# Altium footprint library PCB1.PcbLib: 34 footprints (part 1 of 3)
Each footprint in its own frame and in the unit in brackets; x right, y up, seen from the top. Pads: shape width x height; smd on the part's side, far side on the other; paste and mask are expansions set on the pad; w line width, h text height; cw(c..) or ccw(c..) is an arc to the next point about the centre after c.
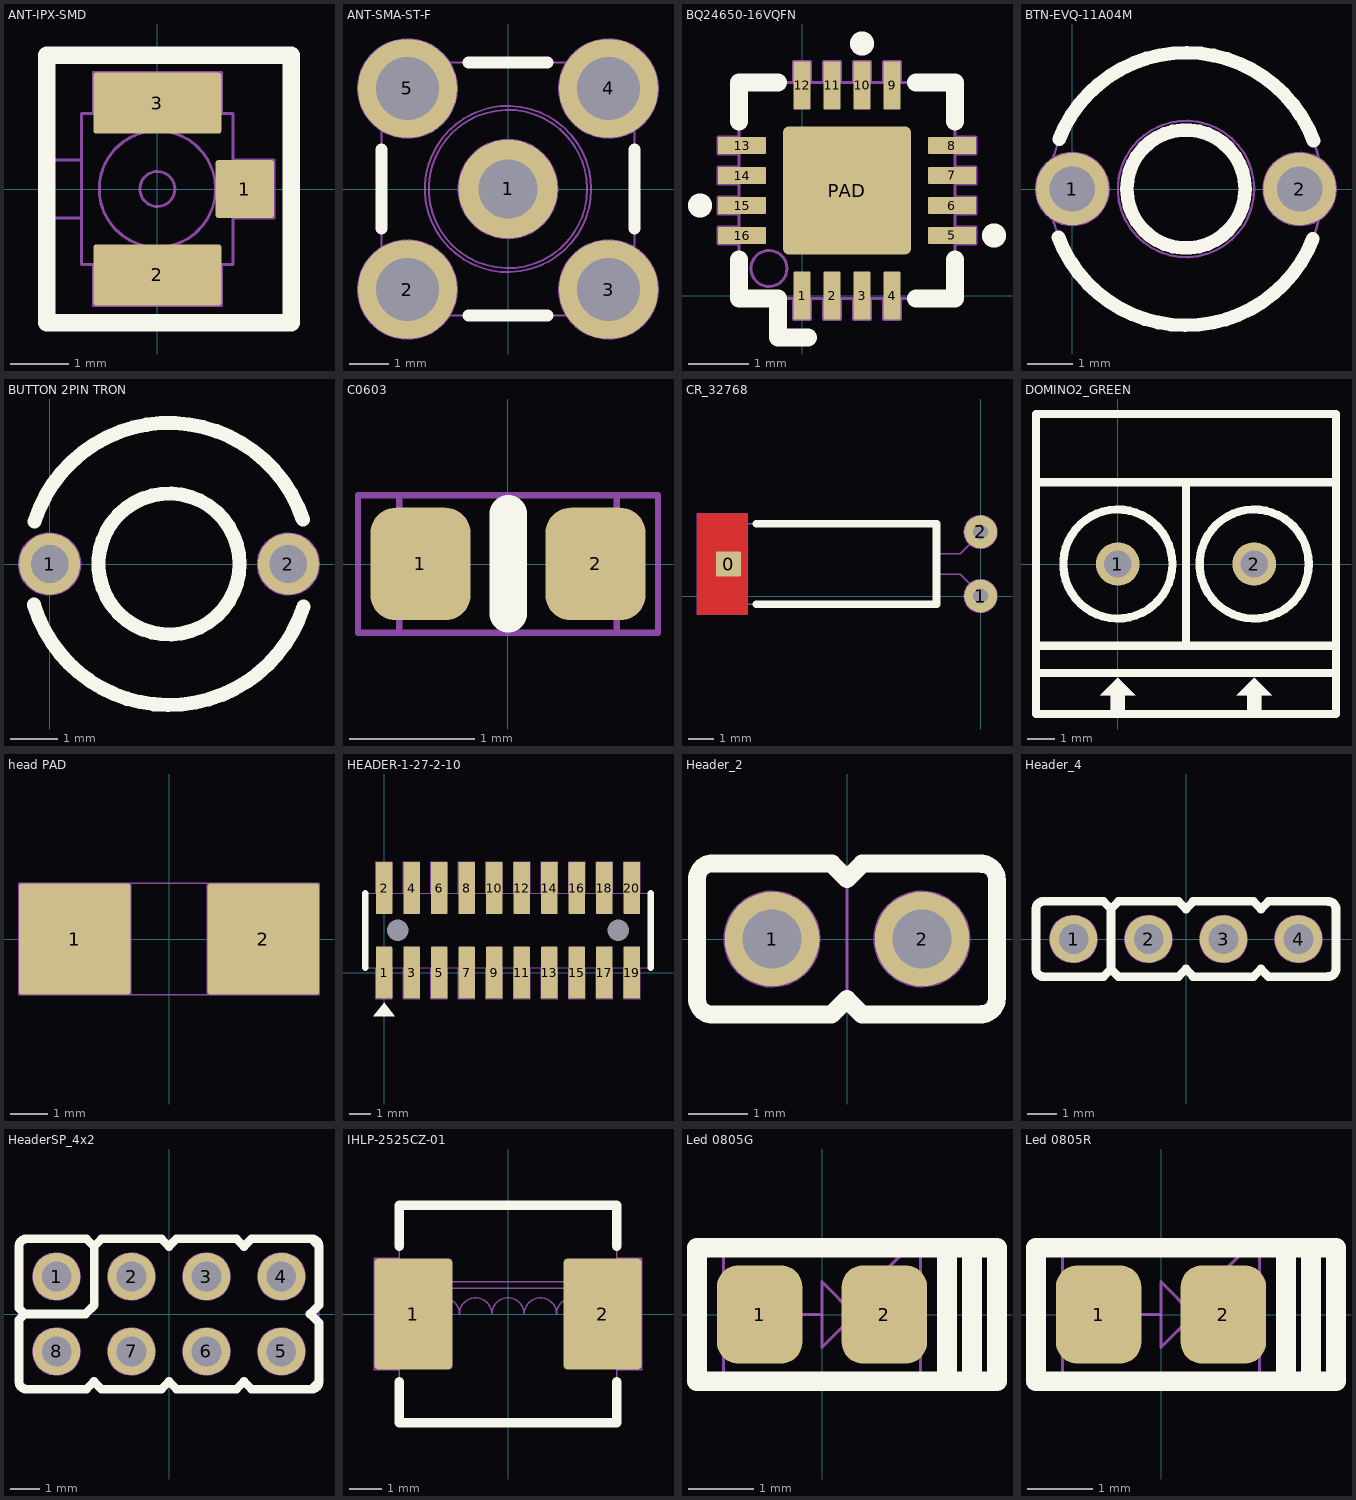
[diagram p0: the footprints below, top view; thin cyan lines are the x and y axes]

## ANT-IPX-SMD [mm] "0­6GHz GSM,  GPRS & CDMA mobile Phones"
height 1.25
pads (3):
  rrect10% 1x1 smd mask+0.1: 1(1.5,0)
  rrect10% 2.2x1.05 smd mask+0.1: 2(0,-1.475) 3(0,1.475)
Top Overlay:
  lines w0.3: -1.9,-2.3 -1.9,2.3 2.3,2.3 2.3,-2.3 -1.9,-2.3
Mechanical 1:
  circle w0.05: c0,0 r0.3
  circle w0.05: c0,0 r1
  lines w0.05: -1.3,-0.5 -1.8,-0.5 -1.8,0.5 -1.3,0.5 ; -1.3,-1.295 -1.3,1.295 1.3,1.295 1.3,-1.295 -1.3,-1.295 ; -1.1,-2 1.1,-2 1.1,-1.295 -1.1,-1.295 -1.1,-2 ; -1.1,1.295 -1.1,2 1.1,2 1.1,1.295 -1.1,1.295 ; 1.3,-0.5 1.3,0.5 2,0.5 2,-0.5 1.3,-0.5
  text "ANT?" at 0,0 h0.5

## ANT-SMA-ST-F [mm] "SMA Straight PCB Female Connector 50 ohm"
height 9.5
pads (5):
  round 2.5 hole 1.5 mask+0.1: 1(0,0)
  round 2.5 hole 1.6 mask+0.1: 2(-2.54,-2.54) 3(2.54,-2.54) 4(2.54,2.54) 5(-2.54,2.54)
Top Overlay:
  lines w0.3: -3.2,-1 -3.2,1 ; -1,-3.2 1,-3.2 ; -1,3.2 1,3.2 ; 3.2,-1 3.2,1
Mechanical 1:
  circle w0.05: c-2.54,2.54 r1.25
  circle w0.05: c2.54,2.54 r1.25
  circle w0.05: c0,0 r1.25
  circle w0.05: c2.54,-2.54 r1.25
  circle w0.05: c-2.54,-2.54 r1.25
  circle w0.05: c0,0 r0.5
  circle w0.05: c0,0 r2.1
  circle w0.05: c0,0 r2
  lines w0.05: -3.2,-3.2 -3.2,3.2 3.2,3.2 3.2,-3.2 -3.2,-3.2

## BQ24650-16VQFN [mm] "Chargeing the battery"
height 1
pads (17):
  rrect10% 0.28x0.8 smd mask+0.07: 1(0,0) 2(0.5,0) 3(1,0) 4(1.5,0) 9(1.5,3.5) 10(1,3.5) 11(0.5,3.5) 12(0,3.5)
  rrect10% 0.8x0.28 smd mask+0.07: 5(2.5,1) 6(2.5,1.5) 7(2.5,2) 8(2.5,2.5) 13(-1,2.5) 14(-1,2) 15(-1,1.5) 16(-1,1)
  rrect10% 2.14x2.14 smd mask+0.07: PAD(0.75,1.75)
Top Overlay:
  circle w0.3: c-1.7,1.5 r0.05
  circle w0.3: c1,4.2 r0.05
  circle w0.3: c3.2,1 r0.05
  lines w0.3: -1.05,0.6 -1.05,-0.05 -0.4,-0.05 -0.4,-0.7 0.1,-0.7 ; -1.05,2.9 -1.05,3.55 -0.4,3.55 ; 1.9,-0.05 2.55,-0.05 2.55,0.6 ; 1.9,3.55 2.55,3.55 2.55,2.9
Mechanical 1:
  circle w0.05: c-0.55,0.45 r0.3
  lines w0.05: -1.4,0.86 -1.4,1.14 -1.05,1.14 -1.05,0.86 -1.4,0.86 ; -1.4,1.36 -1.4,1.64 -1.05,1.64 -1.05,1.36 -1.4,1.36 ; -1.4,1.86 -1.4,2.14 -1.05,2.14 -1.05,1.86 -1.4,1.86 ; -1.4,2.36 -1.05,2.36 -1.05,2.64 -1.4,2.64 -1.4,2.36 ; -1.05,-0.05 2.55,-0.05 2.55,3.55 -1.05,3.55 -1.05,-0.05 ; -0.14,-0.4 -0.14,-0.05 0.14,-0.05 0.14,-0.4 -0.14,-0.4 ; -0.14,3.55 -0.14,3.9 0.14,3.9 0.14,3.55 -0.14,3.55 ; 0.36,-0.4 0.64,-0.4 0.64,-0.05 0.36,-0.05 0.36,-0.4 ; 0.36,3.55 0.36,3.9 0.64,3.9 0.64,3.55 0.36,3.55 ; 0.86,-0.4 1.14,-0.4 1.14,-0.05 0.86,-0.05 0.86,-0.4 ; 0.86,3.55 0.86,3.9 1.14,3.9 1.14,3.55 0.86,3.55 ; 1.36,-0.4 1.64,-0.4 1.64,-0.05 1.36,-0.05 1.36,-0.4 ; 1.36,3.55 1.64,3.55 1.64,3.9 1.36,3.9 1.36,3.55 ; 2.55,0.86 2.55,1.14 2.9,1.14 2.9,0.86 2.55,0.86 ; 2.55,1.36 2.9,1.36 2.9,1.64 2.55,1.64 2.55,1.36 ; 2.55,1.86 2.9,1.86 2.9,2.14 2.55,2.14 2.55,1.86 ; 2.55,2.36 2.9,2.36 2.9,2.64 2.55,2.64 2.55,2.36
  text "16" at -0.4,0.8 h0.4
  text "13" at -0.4,2.2 h0.4
  text "12" at -0.4,3 h0.4
  text "9" at 1.7,3 h0.4
  text "8" at 2.3,2.6 h0.4
  text "5" at 2.3,0.8 h0.4
  text "4" at 1.6,0.2 h0.4

## BTN-EVQ-11A04M [mm] "PIN TO PIN 5, W=6MM"
height 4.3
pads (2):
  round 1.6 hole 1: 1(0,0) 2(5,0)
Top Overlay:
  circle w0.3: c2.5,0 r1.3
  lines w0.3: -0.305,-1.064 ccw(c2.5,0) 5.292,-1.097 ; -0.292,1.097 cw(c2.5,0) 5.305,1.064
Mechanical 1:
  circle w0.05: c2.5,0 r1.5
  circle w0.05: c0,0 r0.8
  circle w0.05: c5,0 r0.8
  circle w0.05: c2.5,0 r1.5
  circle w0.05: c2.5,0 r3

## BUTTON 2PIN TRON [mm] "PIN TO PIN 5.08, W=6MM"
height 5
pads (2):
  round 1.3 hole 0.8: 1(0,0) 2(5.08,0)
Top Overlay:
  circle w0.3: c2.54,0 r1.5
  lines w0.3: -0.333,-0.862 ccw(c2.54,0) 5.399,-0.91 ; -0.321,0.903 cw(c2.54,0) 5.386,0.949
Mechanical 1:
  circle w0.05: c2.54,0 r1.5
  circle w0.05: c0,0 r0.65
  circle w0.05: c5.08,0 r0.65
  circle w0.05: c2.54,0 r1.5
  lines w0.05: -0.333,-0.862 ccw(c2.54,0) 5.399,-0.91 ; -0.321,0.903 cw(c2.54,0) 5.386,0.949

## C0603 [mm] "Chip Capacitor, Body 1.6x0.8mm, 1608"
height 0.85
pads (2):
  rrect50% 0.8x0.9 smd: 1(-0.7,0) 2(0.7,0)
Top Overlay:
  lines w0.3: 0,-0.4 0,0.4
Mechanical 1:
  lines w0.05: -0.87,-0.55 -0.87,0.54 ; 0.87,-0.55 0.87,0.54 ; -1.2,-0.55 1.2,-0.55 1.2,0.55 -1.2,0.55 -1.2,-0.55
  text "C?" at 0,0 h0.5
3D body "Cap 0603.STEP": height 0.6, standoff 0, extent -0.8,-0.4 0.8,0.4

## CR_32768 [mm]
pads (3):
  rrect10% 1x1 smd mask+0.1: 0(-10,1.27)
  round 1.3 hole 0.6 mask+0.1: 1(0,0) 2(0,2.54)
Top Layer:
  region: -9.25,-0.73 -11.25,-0.73 -11.25,3.27 -9.25,3.27
Top Overlay:
  lines w0.3: -8.9,-0.32 -1.75,-0.32 -1.75,2.86 -8.9,2.86
Mechanical 1:
  circle w0.05: c0,0 r0.65
  circle w0.05: c0,2.54 r0.65
  lines w0.05: -1.75,0.87 -0.8,0.87 -0.425,0.495 ; -1.75,1.67 -0.8,1.67 -0.425,2.045 ; -11.25,-0.73 -9.25,-0.73 -9.25,3.27 -11.25,3.27 -11.25,-0.73 ; -10.25,-0.32 -10.25,2.86 -1.75,2.86 -1.75,-0.32 -10.25,-0.32
3D body "User Library-Crystal TH.step": height 3.2, standoff 0, extent -10.175,-0.455 0.6,2.995

## DOMINO2_GREEN [mm] "10A PIN TO PIN 5mm 11mmx11mm"
pads (2):
  round 1.6 hole 1 mask+0.1: 1(0,0) 2(5,0)
Top Overlay:
  circle w0.3: c5,0 r2
  circle w0.3: c0,0 r2
  region: 5,-4.171 4.365,-4.806 4.746,-4.806 4.746,-5.441 5.254,-5.441 5.254,-4.806 5.635,-4.806
  region: 0,-4.171 -0.635,-4.806 -0.254,-4.806 -0.254,-5.441 0.254,-5.441 0.254,-4.806 0.635,-4.806
  lines w0.3: -3,-4 8,-4 ; -3,-3 8,-3 ; -3,3 8,3 ; 2.5,-3 2.5,3 ; -3,-5.5 -3,5.5 8,5.5 8,-5.5 -3,-5.5
Mechanical 1:
  circle w0.05: c5,0 r2
  circle w0.05: c0,0 r2
  region: 5,-4.171 4.365,-4.806 4.746,-4.806 4.746,-5.441 5.254,-5.441 5.254,-4.806 5.635,-4.806
  region: 0,-4.171 -0.635,-4.806 -0.254,-4.806 -0.254,-5.441 0.254,-5.441 0.254,-4.806 0.635,-4.806
  lines w0.05: -3,-4 8,-4 ; -3,-3 8,-3 ; -3,3 8,3 ; 2.5,-3 2.5,3 ; -3,-5.5 -3,5.5 8,5.5 8,-5.5 -3,-5.5
  text "2" at 4.6,-0.6 h1.2
  text "1" at -0.2,-0.6 h1.2
3D body "STB01.step": height 12.5, standoff -4.4, extent -3.14,-4.047 2.54,4.953
3D body "STB01.step": height 12.5, standoff -4.4, extent 1.94,-4.047 7.62,4.953

## head PAD [mm] "head PAD"
pads (2):
  rrect5% 3x3 smd mask+0.1: 1(-2.54,0) 2(2.54,0)
Mechanical 1:
  lines w0.05: -2.94,0 -2.14,0 ; -2.54,-0.4 -2.54,0.4 ; 2.14,0 2.94,0 ; -1.04,-1.5 -1.04,1.5 ; -1.04,-1.5 -1.04,1.5 ; -1.04,-1.5 -4.04,-1.5 -4.04,1.5 -1.04,1.5 ; -1.04,-1.5 1.04,-1.5 ; -1.04,1.5 1.04,1.5 ; 1.04,-1.5 4.04,-1.5 4.04,1.5 1.04,1.5 ; 1.04,-1.5 1.04,1.5
  text "PAD?" at -1.27,0 h0.8

## HEADER-1-27-2-10 [mm] "HEADER PIN TO PIN 1.27"
height 5.5
pads (22):
  rrect10% 0.76x2.4 smd mask+0.1: 1(0,0) 2(0,3.9) 3(1.27,0) 4(1.27,3.9) 5(2.54,0) 6(2.54,3.9) 7(3.81,0) 8(3.81,3.9) 9(5.08,0) 10(5.08,3.9) 11(6.35,0) 12(6.35,3.9) 13(7.62,0) 14(7.62,3.9) 15(8.89,0) 16(8.89,3.9) 17(10.16,0) 18(10.16,3.9) 19(11.43,0) 20(11.43,3.9)
  round 0 hole 1 mask+0.1: HOLE1(0.635,1.95) HOLE2(10.795,1.95)
Top Overlay:
  region: 0,-1.4 -0.5,-2 0.5,-2
  lines w0.3: -0.86,0.235 -0.86,3.665 ; 12.29,0.235 12.29,3.665
Mechanical 1:
  lines w0.05: -0.86,0.235 12.29,0.235 12.29,3.665 -0.86,3.665 -0.86,0.235 ; -0.38,-1.2 -0.38,0.235 0.38,0.235 0.38,-1.2 -0.38,-1.2 ; -0.38,3.665 -0.38,5.1 0.38,5.1 0.38,3.665 -0.38,3.665 ; 0.89,-1.2 1.65,-1.2 1.65,0.235 0.89,0.235 0.89,-1.2 ; 0.89,3.665 0.89,5.1 1.65,5.1 1.65,3.665 0.89,3.665 ; 2.16,-1.2 2.92,-1.2 2.92,0.235 2.16,0.235 2.16,-1.2 ; 2.16,3.665 2.92,3.665 2.92,5.1 2.16,5.1 2.16,3.665 ; 3.43,-1.2 4.19,-1.2 4.19,0.235 3.43,0.235 3.43,-1.2 ; 3.43,3.665 4.19,3.665 4.19,5.1 3.43,5.1 3.43,3.665 ; 4.7,-1.2 5.46,-1.2 5.46,0.235 4.7,0.235 4.7,-1.2 ; 4.7,3.665 5.46,3.665 5.46,5.1 4.7,5.1 4.7,3.665 ; 5.97,-1.2 5.97,0.235 6.73,0.235 6.73,-1.2 5.97,-1.2 ; 5.97,3.665 5.97,5.1 6.73,5.1 6.73,3.665 5.97,3.665 ; 7.24,-1.2 7.24,0.235 8,0.235 8,-1.2 7.24,-1.2 ; 7.24,3.665 7.24,5.1 8,5.1 8,3.665 7.24,3.665 ; 8.51,-1.2 8.51,0.235 9.27,0.235 9.27,-1.2 8.51,-1.2 ; 8.51,3.665 8.51,5.1 9.27,5.1 9.27,3.665 8.51,3.665 ; 9.78,-1.2 10.54,-1.2 10.54,0.235 9.78,0.235 9.78,-1.2 ; 9.78,3.665 9.78,5.1 10.54,5.1 10.54,3.665 9.78,3.665 ; 11.05,-1.2 11.81,-1.2 11.81,0.235 11.05,0.235 11.05,-1.2 ; 11.05,3.665 11.81,3.665 11.81,5.1 11.05,5.1 11.05,3.665
  text "19" at 11.1,-0.7 h0.4
  text "20" at 11.1,4.2 h0.4
  text "2" at -0.1,4.2 h0.4
  text "1" at 0,-0.7 h0.4
  text "HD?" at 3.759,1.467 h1

## Header_2 [mm] "Connector DIP, 2Pin_2.54mm"
height 5
pads (2):
  round 1.6 hole 1 mask+0.1: 1(-1.27,0) 2(1.27,0)
Top Overlay:
  lines w0.3: -0.264,-1.28 -2.3,-1.28 cw(c-2.28,-1.02) -2.54,-1 -2.54,1 cw(c-2.28,1.02) -2.3,1.28 -0.254,1.28 ; -0.254,-1.27 0,-1.016 0,-1.026 0.254,-1.28 2.286,-1.28 2.286,-1.27 ; -0.254,1.27 0,1.016 0.254,1.27 ; 0.254,1.28 2.286,1.28 2.286,1.27 ; 2.26,-1.28 ccw(c2.26,-1) 2.54,-1 2.54,1 ccw(c2.26,1) 2.26,1.28
Mechanical 1:
  circle w0.05: c-1.27,0 r0.8
  circle w0.05: c1.27,0 r0.8
  lines w0.05: -0.264,-1.28 -2.3,-1.28 cw(c-2.28,-1.02) -2.54,-1 -2.54,1 cw(c-2.28,1.02) -2.3,1.28 -0.254,1.28 ; -0.254,-1.27 0,-1.016 0,-1.026 ; -0.254,1.27 0,1.016 ; 0.254,1.27 0,1.016 ; 0.254,1.28 2.286,1.28 2.286,1.27 ; 2.26,-1.28 ccw(c2.26,-1) 2.54,-1 2.54,1 ccw(c2.26,1) 2.26,1.28 ; 2.286,-1.27 2.286,-1.28 0.254,-1.28 0,-1.026 ; 0,-1.026 0,1.016
  text "HD?" at 0.05,0.05 h0.8
  text "2" at 1.016,-0.254 h1.2
  text "1" at -1.524,-0.254 h1.2
3D body "Header 1x2.STEP": height 10.1, standoff -1.5, extent -2.54,-1.27 2.54,1.27

## Header_4 [mm] "Connector DIP, 4Pin_2.54mm"
height 5
pads (4):
  round 1.6 hole 1 mask+0.1: 1(-3.81,0) 2(-1.27,0) 3(1.27,0) 4(3.81,0)
Top Overlay:
  lines w0.3: -2.794,-1.28 -2.794,-1.27 ; -2.794,1.27 -2.54,1.016 ; -2.794,1.28 -4.84,1.28 ccw(c-4.82,1.02) -5.08,1 -5.08,-1 ccw(c-4.82,-1.02) -4.84,-1.28 -2.804,-1.28 -2.794,-1.27 ; -2.286,1.27 -2.54,1.016 ; -2.286,1.28 -0.254,1.28 -0.254,1.27 0,1.016 0.254,1.27 ; 0.24,-1.28 2.276,-1.28 2.286,-1.27 ; 0.24,1.28 2.286,1.28 ; 0.254,-1.27 0,-1.016 -0.254,-1.27 -0.254,-1.28 -2.286,-1.28 -2.54,-1.026 ; 2.286,-1.28 2.286,-1.27 ; 2.286,1.27 2.54,1.016 2.794,1.27 ; 2.794,1.28 4.826,1.28 4.826,1.27 ; 4.8,-1.28 ccw(c4.8,-1) 5.08,-1 5.08,1 ccw(c4.8,1) 4.8,1.28 ; 4.826,-1.27 4.826,-1.28 2.794,-1.28 2.54,-1.026 2.54,-1.016 2.286,-1.27 ; -2.794,-1.27 -2.54,-1.016 -2.54,-1.026 ; -2.54,-1.026 -2.54,1.016
Mechanical 1:
  circle w0.05: c-3.81,0 r0.8
  circle w0.05: c-3.81,0 r0.8
  circle w0.05: c-1.27,0 r0.8
  circle w0.05: c1.27,0 r0.8
  circle w0.05: c3.81,0 r0.8
  lines w0.05: -2.794,-1.28 -2.794,-1.27 ; -2.794,1.27 -2.54,1.016 ; -2.794,1.28 -4.84,1.28 ccw(c-4.82,1.02) -5.08,1 -5.08,-1 ccw(c-4.82,-1.02) -4.84,-1.28 -2.804,-1.28 -2.794,-1.27 ; -2.286,1.27 -2.54,1.016 ; -2.286,1.28 -0.254,1.28 -0.254,1.27 0,1.016 0.254,1.27 ; 0.24,-1.28 2.276,-1.28 2.286,-1.27 ; 0.24,1.28 2.286,1.28 ; 0.254,-1.27 0,-1.016 -0.254,-1.27 -0.254,-1.28 -2.286,-1.28 -2.54,-1.026 -2.54,-1.016 ; 2.286,-1.28 2.286,-1.27 ; 2.286,1.27 2.54,1.016 2.794,1.27 ; 2.54,-1.026 2.794,-1.28 4.826,-1.28 4.826,-1.27 ; 2.54,-1.016 2.286,-1.27 ; 2.794,1.28 4.826,1.28 4.826,1.27 ; 4.8,-1.28 ccw(c4.8,-1) 5.08,-1 5.08,1 ccw(c4.8,1) 4.8,1.28 ; -2.794,-1.27 -2.54,-1.016 ; -2.54,-1.016 -2.54,1.016
  text "4" at 3.556,-0.254 h1.2
  text "1" at -4.064,-0.254 h1.2
  text "HD?" at 0.05,0.05 h0.8
3D body "Header 1x4.STEP": height 10.1, standoff -1.5, extent -5.08,-1.27 5.08,1.27

## HeaderSP_4x2 [mm] "Connector DIP FeMale, 2x4Pin_2.54mm"
height 5
pads (8):
  round 1.6 hole 1 mask+0.1: 1(-3.81,1.27) 2(-1.27,1.27) 3(1.27,1.27) 4(3.81,1.27) 5(3.81,-1.27) 6(1.27,-1.27) 7(-1.27,-1.27) 8(-3.81,-1.27)
Top Overlay:
  lines w0.3: -2.794,-2.55 -2.794,-2.54 ; -2.794,2.54 -2.54,2.286 -2.286,2.54 ; -2.794,2.55 -4.84,2.55 ccw(c-4.82,2.29) -5.08,2.27 -5.08,0.2 -4.88,0 ; -2.53,2.276 -2.53,0.3 -2.83,0 -4.88,0 ; -2.286,2.55 -0.254,2.55 ; 4.84,-2.55 ccw(c4.82,-2.29) 5.08,-2.27 ; 4.84,2.55 cw(c4.82,2.29) 5.08,2.27 5.08,0.3 4.78,0 5.08,-0.3 5.08,-2.2 ; 5.08,-2.296 5.08,-2.286 4.826,-2.54 4.826,-2.55 2.794,-2.55 2.794,-2.54 2.54,-2.286 2.286,-2.54 2.286,-2.55 0.254,-2.55 ; 5.08,2.286 4.826,2.54 4.826,2.55 2.794,2.55 2.54,2.296 ; -4.88,0 -5.08,-0.2 -5.08,-2.27 ccw(c-4.82,-2.29) -4.84,-2.55 -2.804,-2.55 -2.794,-2.54 ; -2.794,-2.54 -2.54,-2.286 -2.54,-2.296 -2.286,-2.55 -0.254,-2.55 ; -0.254,-2.55 -0.254,-2.54 ; -0.254,-2.55 -0.254,-2.54 ; -0.254,-2.54 0,-2.286 0.254,-2.54 ; -0.254,2.54 -0.254,2.55 ; -0.254,2.54 0,2.286 ; -0.254,2.54 0,2.286 ; -0.254,2.54 -0.254,2.55 ; 0,2.286 0,2.296 0.254,2.55 2.286,2.55 2.286,2.54 2.54,2.286 ; 0.254,-2.55 0.254,-2.54 ; 0.254,-2.55 0.254,-2.54 ; 2.54,2.286 2.54,2.296 ; 2.54,2.286 2.54,2.296
Mechanical 1:
  circle w0.05: c3.81,-1.27 r0.8
  circle w0.05: c3.81,1.27 r0.8
  circle w0.05: c1.27,-1.27 r0.8
  circle w0.05: c1.27,1.27 r0.8
  circle w0.05: c-1.27,-1.27 r0.8
  circle w0.05: c-1.27,1.27 r0.8
  circle w0.05: c-3.81,1.27 r0.8
  circle w0.05: c-1.27,1.27 r0.8
  circle w0.05: c-1.27,-1.27 r0.8
  circle w0.05: c-3.81,-1.27 r0.8
  lines w0.05: -2.794,-2.55 -2.794,-2.54 ; -2.794,2.54 -2.54,2.286 ; -2.794,2.55 -4.84,2.55 ccw(c-4.82,2.29) -5.08,2.27 -5.08,-2.27 ccw(c-4.82,-2.29) -4.84,-2.55 -2.804,-2.55 -2.794,-2.54 ; 0.254,2.54 0,2.286 ; 0.254,2.55 2.286,2.55 2.286,2.54 2.54,2.286 2.794,2.54 ; 2.794,2.55 4.826,2.55 4.826,2.54 ; 4.826,-2.54 4.826,-2.55 2.794,-2.55 2.54,-2.296 2.54,-2.286 2.286,-2.54 2.286,-2.55 0.254,-2.55 0,-2.296 0,-2.286 ; 4.84,-2.55 ccw(c4.82,-2.29) 5.08,-2.27 5.08,2.27 ccw(c4.82,2.29) 4.84,2.55 ; 5.08,-2.296 5.08,-2.286 ; -2.794,-2.54 -2.54,-2.286 ; -2.54,-2.296 -2.54,-2.286 ; -2.54,-2.296 -2.286,-2.55 ; -2.54,-2.296 -2.286,-2.55 ; -2.54,-2.296 -2.54,-2.286 ; -2.54,2.286 -2.286,2.54 -2.54,2.286 ; -2.286,-2.55 -0.254,-2.55 ; -2.286,-2.55 -0.254,-2.55 ; -0.254,-2.55 -0.254,-2.54 ; -0.254,-2.55 -0.254,-2.54 ; -0.254,-2.54 0,-2.286 ; -0.254,-2.54 0,-2.286 ; -0.254,2.54 0,2.286 ; -0.254,2.54 -0.254,2.55 ; -0.254,2.54 -0.254,2.55 ; -0.254,2.54 0,2.286 ; -0.254,2.55 -2.286,2.55 -0.254,2.55
  text "5" at 3.57,-1.75 h1
  text "4" at 3.47,0.8 h1
  text "8" at -4.08,-1.75 h1
  text "1" at -3.98,0.87 h1
3D body "User Library-2x4 female header 2_54mm pitch.STEP": height 4.5, standoff -3.15, extent -5.08,-2.54 5.08,2.54

## IHLP-2525CZ-01 [mil] "Low-Profile, High-Current IHLP® Inductor"
height 118.11
pads (2):
  rrect10% 95x135 smd mask+3.94: 1(-115,0) 2(115,0)
Top Overlay:
  lines w11.81: -132.36,-82.68 -132.36,-132.36 132.36,-132.36 132.36,-82.68 ; -132.36,82.68 -132.36,132.36 132.36,132.36 132.36,82.68
Mechanical 1:
  lines w1.97: -132.36,-118.97 -132.36,118.75 ; -132.36,116 cw(c-117.13,117.01) -118.88,132.17 ; -132.17,-118.88 ccw(c-117.01,-117.13) -116,-132.36 ; -118.75,132.36 116,132.36 cw(c117.01,117.13) 132.17,118.88 ; -115.97,-132.36 118.97,-132.36 ; -98.43,0 cw(c-78.74,0) -59.05,0 cw(c-39.37,0) -19.69,0 cw(c0,0) 19.69,0 cw(c39.37,0) 59.06,0 cw(c78.74,0) 98.43,0 ; -98.43,31.5 98.43,31.5 ; -98.43,39.37 98.43,39.37 ; 118.88,-132.17 ccw(c117.13,-117.01) 132.36,-116 ; 132.36,-115.97 132.36,118.88 ; 132.68,-67.5 162.5,-67.5 162.5,67.5 132.68,67.5 ; -162.5,-67.5 -132.86,-67.5 ; -162.5,-67.5 -162.5,67.5 ; -162.5,-67.5 -162.5,67.5 ; -162.5,-67.5 -132.86,-67.5 ; -162.5,67.5 -132.86,67.5 ; -162.5,67.5 -132.86,67.5 ; -132.86,-67.5 -132.86,67.5

## Led 0805G [mm] "Chip LED; Green; Body 2.0 x 1.3 mm (LxW typ)"
height 1.1
pads (2):
  rrect50% 1.3x1.5 smd: 1(-0.95,0) 2(0.95,0)
Top Overlay:
  lines w0.3: 1.905,-1.016 1.905,1.016 ; 2.286,-1.016 2.286,1.016 ; -1.905,-1.016 2.667,-1.016 2.667,1.016 -1.905,1.016 -1.905,-1.016
Mechanical 1:
  lines w0.05: -1.5,-1 -1.5,1.032 ; -0.5,0 0,0 ; 0.5,-0.5 0.5,0.5 ; 0.6,0.5 0.8,0.7 0.8,0.5 1.2,0.9 ; 0.75,0.2 0.95,0.4 0.95,0.2 1.35,0.6 ; 1,0 0.5,0 ; 1.5,-1 1.5,1.032 ; 0.5,0 0,-0.5 0,0.5 0.5,0 ; -1.905,-1 1.905,-1 1.905,1.032 -1.905,1.032 -1.905,-1
3D body "User Library-User Library-led_0805 GRE.step": height 1.1, standoff 0, extent -1.035,-0.625 0.985,0.625

## Led 0805R [mm] "Chip LED; RED ; Body 2.0 x 1.3 mm (LxW typ)"
height 1.1
pads (2):
  rrect50% 1.3x1.5 smd: 1(-0.95,0) 2(0.95,0)
Top Overlay:
  lines w0.3: 1.905,-1.016 1.905,1.016 ; 2.286,-1.016 2.286,1.016 ; -1.905,-1.016 2.667,-1.016 2.667,1.016 -1.905,1.016 -1.905,-1.016
Mechanical 1:
  lines w0.05: -1.5,-1 -1.5,1.032 ; -0.5,0 0,0 ; 0.5,-0.5 0.5,0.5 ; 0.6,0.5 0.8,0.7 0.8,0.5 1.2,0.9 ; 0.75,0.2 0.95,0.4 0.95,0.2 1.35,0.6 ; 1,0 0.5,0 ; 1.5,-1 1.5,1.032 ; 0.5,0 0,0.5 0,-0.5 0.5,0 ; -1.905,-1 -1.905,1.032 1.905,1.032 1.905,-1 -1.905,-1
3D body "User Library-User Library-led_0805 R.step": height 1.1, standoff 0, extent -1.01,-0.625 1.01,0.625